# Altium footprint library ESP32-WROOM-32U.PcbLib: 2 footprints
Each footprint in its own frame and in the unit in brackets; x right, y up, seen from the top. Pads: shape width x height; smd on the part's side, far side on the other; paste and mask are expansions set on the pad; w line width, h text height; cw(c..) or ccw(c..) is an arc to the next point about the centre after c.
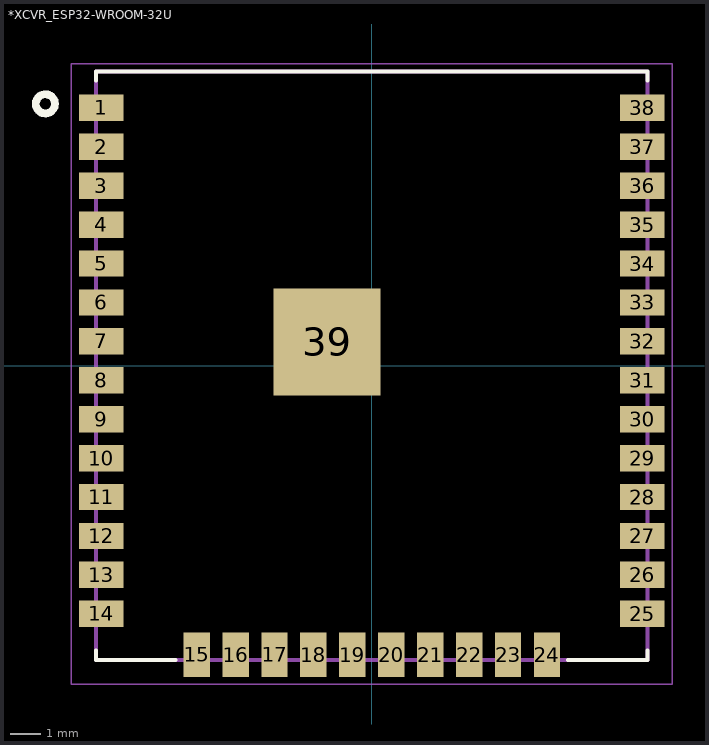
[diagram p0: the footprints below, top view; thin cyan lines are the x and y axes]

## *XCVR_ESP32-WROOM-32U [mm]
pads (39):
  rect 1.45x0.86 smd: 1(-8.83,8.41) 2(-8.83,7.14) 3(-8.83,5.87) 4(-8.83,4.6) 5(-8.83,3.33) 6(-8.83,2.06) 7(-8.83,0.79) 8(-8.83,-0.48) 9(-8.83,-1.75) 10(-8.83,-3.02) 11(-8.83,-4.29) 12(-8.83,-5.56) 13(-8.83,-6.83) 14(-8.83,-8.1) 25(8.83,-8.1) 26(8.83,-6.83) 27(8.83,-5.56) 28(8.83,-4.29) 29(8.83,-3.02) 30(8.83,-1.75) 31(8.83,-0.48) 32(8.83,0.79) 33(8.83,2.06) 34(8.83,3.33) 35(8.83,4.6) 36(8.83,5.87) 37(8.83,7.14) 38(8.83,8.41)
  rect 0.86x1.45 smd: 15(-5.715,-9.43) 16(-4.445,-9.43) 17(-3.175,-9.43) 18(-1.905,-9.43) 19(-0.635,-9.43) 20(0.635,-9.43) 21(1.905,-9.43) 22(3.175,-9.43) 23(4.445,-9.43) 24(5.715,-9.43)
  rect 3.5x3.5 smd: 39(-1.46,0.77)
Top Overlay:
  circle w0.254: c-10.65,8.54 r0.312
  lines w0.127: -9,-9.3 -9,-9.6 -6.4,-9.6 ; -9,9.3 -9,9.6 9,9.6 9,9.3 ; 6.4,-9.6 9,-9.6 9,-9.3
Mechanical 4:
  lines w0.127: -9,-9.6 -9,9.6 ; -9,-9.6 9,-9.6 ; -9,-9.6 -9,9.6 ; -9,-9.6 9,-9.6 ; -9,9.6 9,9.6 ; -9,9.6 9,9.6 ; 9,-9.6 9,9.6 ; 9,-9.6 9,9.6
Mechanical 15:
  lines w0.05: -9.8,-10.4 -9.8,9.85 9.8,9.85 9.8,-10.4 -9.8,-10.4

## PCBComponent_1 [mm]